# EAGLE library part T1200XE_RAM_CON50_DIY (library ferry_con)
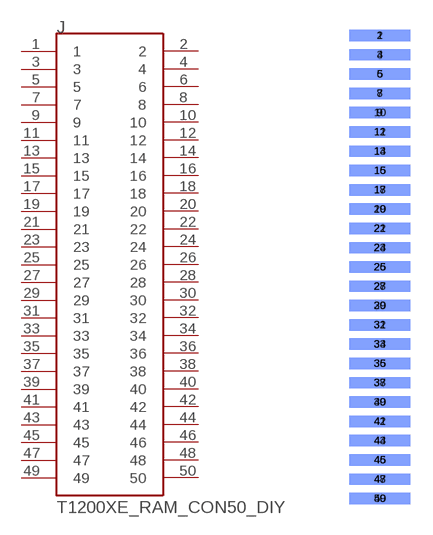
[diagram p3: symbol with the pads of T1200_RAM_CON50_DIY; footprint T1200_RAM_CON50_DIY]

Designator prefix J

## T1200XE_RAM_CON50_DIY  [T1200_RAM_CON50_DIY]
1  1
2  2
3  3
4  4
5  5
6  6
7  7
8  8
9  9
10  10
11  11
12  12
13  13
14  14
15  15
16  16
17  17
18  18
19  19
20  20
21  21
22  22
23  23
24  24
25  25
26  26
27  27
28  28
29  29
30  30
31  31
32  32
33  33
34  34
35  35
36  36
37  37
38  38
39  39
40  40
41  41
42  42
43  43
44  44
45  45
46  46
47  47
48  48
49  49
50  50

## Footprint T1200_RAM_CON50_DIY (pad centres in mm)
smd 4 x 0.75: 1 0,15.24; 3 0,13.97; 5 0,12.7; 7 0,11.43; 9 0,10.16; 11 0,8.89; 13 0,7.62; 15 0,6.35; 17 0,5.08; 19 0,3.81; 21 0,2.54; 23 0,1.27; 25 0,0; 27 0,-1.27; 29 0,-2.54; 31 0,-3.81; 33 0,-5.08; 35 0,-6.35; 37 0,-7.62; 39 0,-8.89; 41 0,-10.16; 43 0,-11.43; 45 0,-12.7; 47 0,-13.97; 49 0,-15.24
smd 4 x 0.75 bottom: 2 0,15.24; 4 0,13.97; 6 0,12.7; 8 0,11.43; 10 0,10.16; 12 0,8.89; 14 0,7.62; 16 0,6.35; 18 0,5.08; 20 0,3.81; 22 0,2.54; 24 0,1.27; 26 0,0; 28 0,-1.27; 30 0,-2.54; 32 0,-3.81; 34 0,-5.08; 36 0,-6.35; 38 0,-7.62; 40 0,-8.89; 42 0,-10.16; 44 0,-11.43; 46 0,-12.7; 48 0,-13.97; 50 0,-15.24